# EAGLE library part RFM26W (library upra_lib4eagle)
HopeRF RFM-26W Transceiver
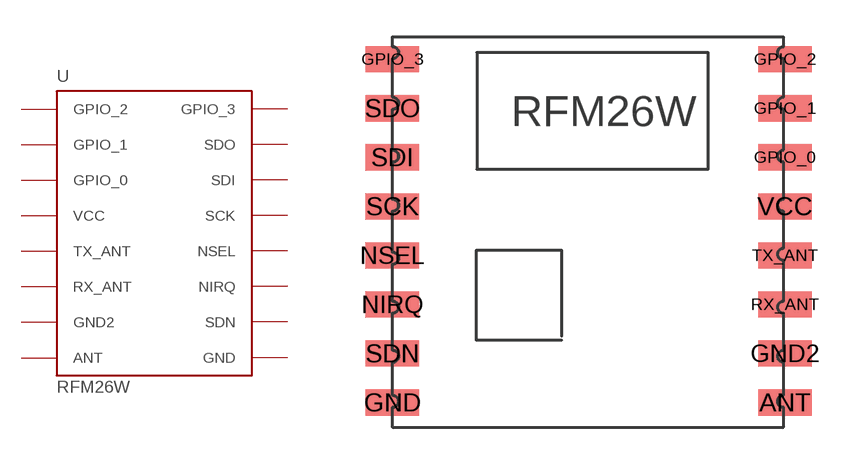
[diagram p6: symbol with the pads of RFM-26; footprint RFM-26]

Designator prefix -

## RFM26W  [RFM-26]
ANT  ANT
GND  GND
GND2  GND2
GPIO_0  GPIO_0
GPIO_1  GPIO_1
GPIO_2  GPIO_2
GPIO_3  GPIO_3
NIRQ  NIRQ
NSEL  NSEL
RX_ANT  RX_ANT
SCK  SCK
SDI  SDI
SDN  SDN
SDO  SDO
TX_ANT  TX_ANT
VCC  VCC

## Footprint RFM-26 (pad centres in mm)
smd 2.184 x 1.067: ANT 16,1; GND 0,1; GND2 16,3; GPIO_0 16,11; GPIO_1 16,13; GPIO_2 16,15; GPIO_3 0,15; NIRQ 0,5; NSEL 0,7; RX_ANT 16,5; SCK 0,9; SDI 0,11; SDN 0,3; SDO 0,13; TX_ANT 16,7; VCC 16,9